# Altium footprint library Vishay Roederstein Electrolytic Radial-Lead Capacitor.PcbLib: 56 footprints (part 2 of 4)
Each footprint in its own frame and in the unit in brackets; x right, y up, seen from the top. Pads: shape width x height; smd on the part's side, far side on the other; paste and mask are expansions set on the pad; w line width, h text height; cw(c..) or ccw(c..) is an arc to the next point about the centre after c.
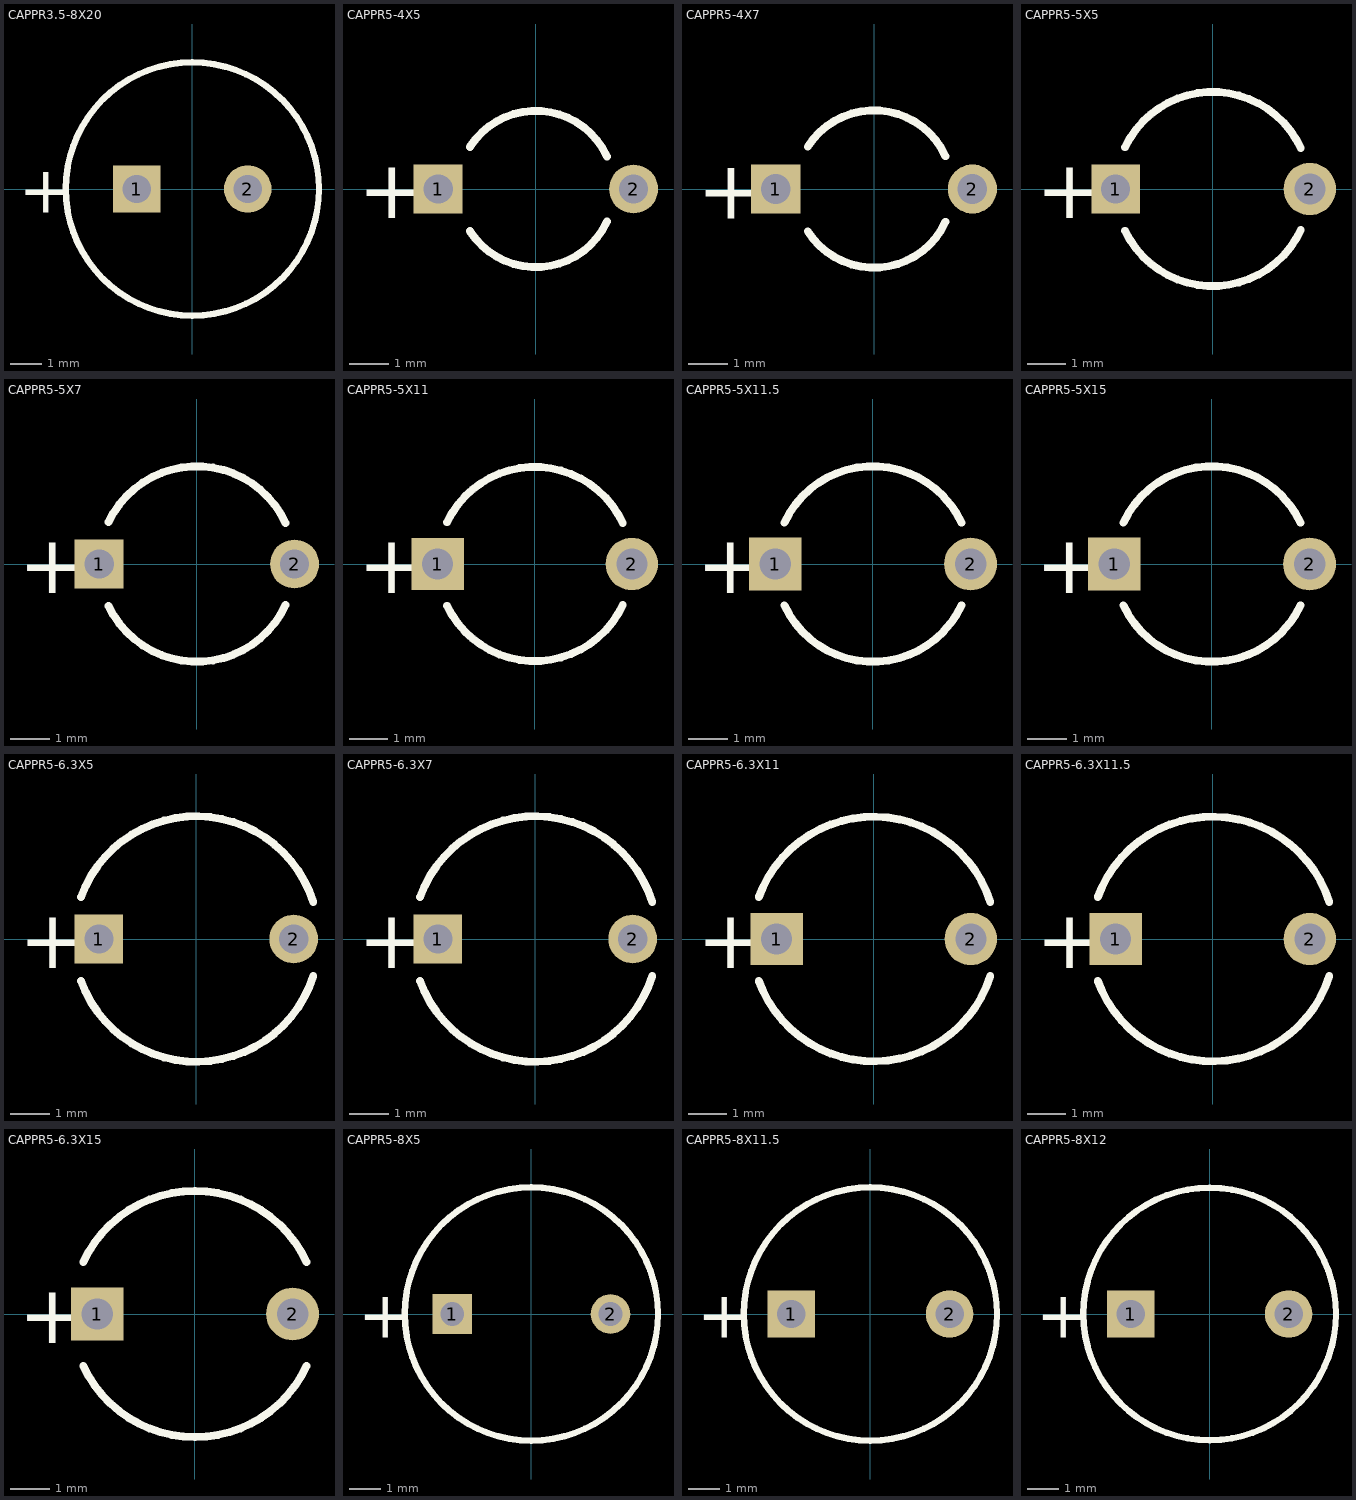
[diagram p1: the footprints below, top view; thin cyan lines are the x and y axes]

## CAPPR3.5-8X20 [mm] "Capacitor, Electrolytic, Radial; Body 8 x 20 mm (Dia.xH typ); Pin Spacing 3.5 mm (typ)"
height 21.5
pads (2):
  rect 1.5x1.5 hole 0.9: 1(-1.75,0)
  round 1.5 hole 0.9: 2(1.75,0)
Top Overlay:
  circle w0.2: c0,0 r4
  text "+" at -5.475,-0.75 h1.5

## CAPPR5-4X5 [mm] "Capacitor, Electrolytic, Radial; Body 4 x 5 mm (Dia.xH typ); Pin Spacing 5 mm (typ)"
height 6
pads (2):
  rect 1.25x1.25 hole 0.75: 1(-2.5,0)
  round 1.25 hole 0.75: 2(2.5,0)
Top Overlay:
  lines w0.2: -1.687,-1.075 ccw(c0,0) 1.819,-0.832 ; -1.687,1.075 cw(c0,0) 1.819,0.832
  text "+" at -4.55,-0.75 h1.5

## CAPPR5-4X7 [mm] "Capacitor, Electrolytic, Radial; Body 4 x 7 mm (Dia.xH typ); Pin Spacing 5 mm (typ)"
height 8
pads (2):
  rect 1.25x1.25 hole 0.75: 1(-2.5,0)
  round 1.25 hole 0.75: 2(2.5,0)
Top Overlay:
  lines w0.2: -1.687,-1.075 ccw(c0,0) 1.819,-0.832 ; -1.687,1.075 cw(c0,0) 1.819,0.832
  text "+" at -4.5,-0.75 h1.5

## CAPPR5-5X5 [mm] "Capacitor, Electrolytic, Radial; Body 5 x 5 mm (Dia.xH typ); Pin Spacing 5 mm (typ)"
height 6
pads (2):
  rect 1.25x1.25 hole 0.75: 1(-2.5,0)
  round 1.35 hole 0.8: 2(2.5,0)
Top Overlay:
  lines w0.2: -2.257,-1.075 ccw(c0,0) 2.269,-1.05 ; -2.257,1.075 cw(c0,0) 2.269,1.05
  text "+" at -4.55,-0.75 h1.5

## CAPPR5-5X7 [mm] "Capacitor, Electrolytic, Radial; Body 5 x 7 mm (Dia.xH typ); Pin Spacing 5 mm (typ)"
height 8
pads (2):
  rect 1.25x1.25 hole 0.75: 1(-2.5,0)
  round 1.25 hole 0.75: 2(2.5,0)
Top Overlay:
  lines w0.2: -2.257,-1.075 ccw(c0,0) 2.269,-1.05 ; -2.257,1.075 cw(c0,0) 2.269,1.05
  text "+" at -4.55,-0.75 h1.5

## CAPPR5-5X11 [mm] "Capacitor, Electrolytic, Radial; Body 5 x 11 mm (Dia.xH typ); Pin Spacing 5 mm (typ)"
height 12
pads (2):
  rect 1.35x1.35 hole 0.8: 1(-2.5,0)
  round 1.35 hole 0.8: 2(2.5,0)
Top Overlay:
  lines w0.2: -2.257,-1.075 ccw(c0,0) 2.269,-1.05 ; -2.257,1.075 cw(c0,0) 2.269,1.05
  text "+" at -4.55,-0.75 h1.5

## CAPPR5-5X11.5 [mm] "Capacitor, Electrolytic, Radial; Body 5 x 11.5 mm (Dia.xH typ); Pin Spacing 5 mm (typ)"
height 13
pads (2):
  rect 1.35x1.35 hole 0.8: 1(-2.5,0)
  round 1.35 hole 0.8: 2(2.5,0)
Top Overlay:
  lines w0.2: -2.266,-1.057 ccw(c0,0) 2.266,-1.057 ; -2.266,1.057 cw(c0,0) 2.266,1.057
  text "+" at -4.5,-0.75 h1.5

## CAPPR5-5X15 [mm] "Capacitor, Electrolytic, Radial; Body 5 x 15 mm (Dia.xH typ); Pin Spacing 5 mm (typ)"
height 16.5
pads (2):
  rect 1.35x1.35 hole 0.8: 1(-2.5,0)
  round 1.35 hole 0.8: 2(2.5,0)
Top Overlay:
  lines w0.2: -2.266,-1.057 ccw(c0,0) 2.266,-1.057 ; -2.266,1.057 cw(c0,0) 2.266,1.057
  text "+" at -4.5,-0.75 h1.5

## CAPPR5-6.3X5 [mm] "Capacitor, Electrolytic, Radial; Body 6.3 x 5 mm (Dia.xH typ); Pin Spacing 5 mm (typ)"
height 6
pads (2):
  rect 1.25x1.25 hole 0.75: 1(-2.5,0)
  round 1.25 hole 0.75: 2(2.5,0)
Top Overlay:
  lines w0.2: -2.961,-1.075 ccw(c0,0) 3.003,-0.95 ; -2.961,1.075 cw(c0,0) 3.003,0.95
  text "+" at -4.55,-0.75 h1.5

## CAPPR5-6.3X7 [mm] "Capacitor, Electrolytic, Radial; Body 6.3 x 7 mm (Dia.xH typ); Pin Spacing 5 mm (typ)"
height 8
pads (2):
  rect 1.25x1.25 hole 0.75: 1(-2.5,0)
  round 1.25 hole 0.75: 2(2.5,0)
Top Overlay:
  lines w0.2: -2.961,-1.075 ccw(c0,0) 3.003,-0.95 ; -2.961,1.075 cw(c0,0) 3.003,0.95
  text "+" at -4.55,-0.75 h1.5

## CAPPR5-6.3X11 [mm] "Capacitor, Electrolytic, Radial; Body 6.3 x 11 mm (Dia.xH typ); Pin Spacing 5 mm (typ)"
height 12
pads (2):
  rect 1.35x1.35 hole 0.8: 1(-2.5,0)
  round 1.35 hole 0.8: 2(2.5,0)
Top Overlay:
  lines w0.2: -2.961,-1.075 ccw(c0,0) 3.003,-0.95 ; -2.961,1.075 cw(c0,0) 3.003,0.95
  text "+" at -4.55,-0.75 h1.5

## CAPPR5-6.3X11.5 [mm] "Capacitor, Electrolytic, Radial; Body 6.3 x 11.5 mm (Dia.xH typ); Pin Spacing 5 mm (typ)"
height 13
pads (2):
  rect 1.35x1.35 hole 0.8: 1(-2.5,0)
  round 1.35 hole 0.8: 2(2.5,0)
Top Overlay:
  lines w0.2: -2.961,-1.075 ccw(c0,0) 3.003,-0.95 ; -2.961,1.075 cw(c0,0) 3.003,0.95
  text "+" at -4.55,-0.75 h1.5

## CAPPR5-6.3X15 [mm] "Capacitor, Electrolytic, Radial; Body 6.3 x 15 mm (Dia.xH typ); Pin Spacing 5 mm (typ)"
height 16.5
pads (2):
  rect 1.35x1.35 hole 0.8: 1(-2.5,0)
  round 1.35 hole 0.8: 2(2.5,0)
Top Overlay:
  lines w0.2: -2.855,-1.331 ccw(c0,0) 2.855,-1.331 ; -2.855,1.331 cw(c0,0) 2.855,1.331
  text "+" at -4.5,-0.75 h1.5

## CAPPR5-8X5 [mm] "Capacitor, Electrolytic, Radial; Body 8 x 5 mm (Dia.xH typ); Pin Spacing 5 mm (typ)"
height 6
pads (2):
  rect 1.25x1.25 hole 0.75: 1(-2.5,0)
  round 1.25 hole 0.75: 2(2.5,0)
Top Overlay:
  circle w0.2: c0,0 r4
  text "+" at -5.475,-0.75 h1.5

## CAPPR5-8X11.5 [mm] "Capacitor, Electrolytic, Radial; Body 8 x 11.5 mm (Dia.xH typ); Pin Spacing 5 mm (typ)"
height 12.5
pads (2):
  rect 1.5x1.5 hole 0.9: 1(-2.5,0)
  round 1.5 hole 0.9: 2(2.5,0)
Top Overlay:
  circle w0.2: c0,0 r4
  text "+" at -5.475,-0.75 h1.5

## CAPPR5-8X12 [mm] "Capacitor, Electrolytic, Radial; Body 8 x 12 mm (Dia.xH typ); Pin Spacing 5 mm (typ)"
height 13.5
pads (2):
  rect 1.5x1.5 hole 0.9: 1(-2.5,0)
  round 1.5 hole 0.9: 2(2.5,0)
Top Overlay:
  circle w0.2: c0,0 r4
  text "+" at -5.5,-0.752 h1.5